# Altium schematic symbol library _components.SchLib: 46 symbols
Pins are listed as number, name and electrical type; pins without a type are passive.

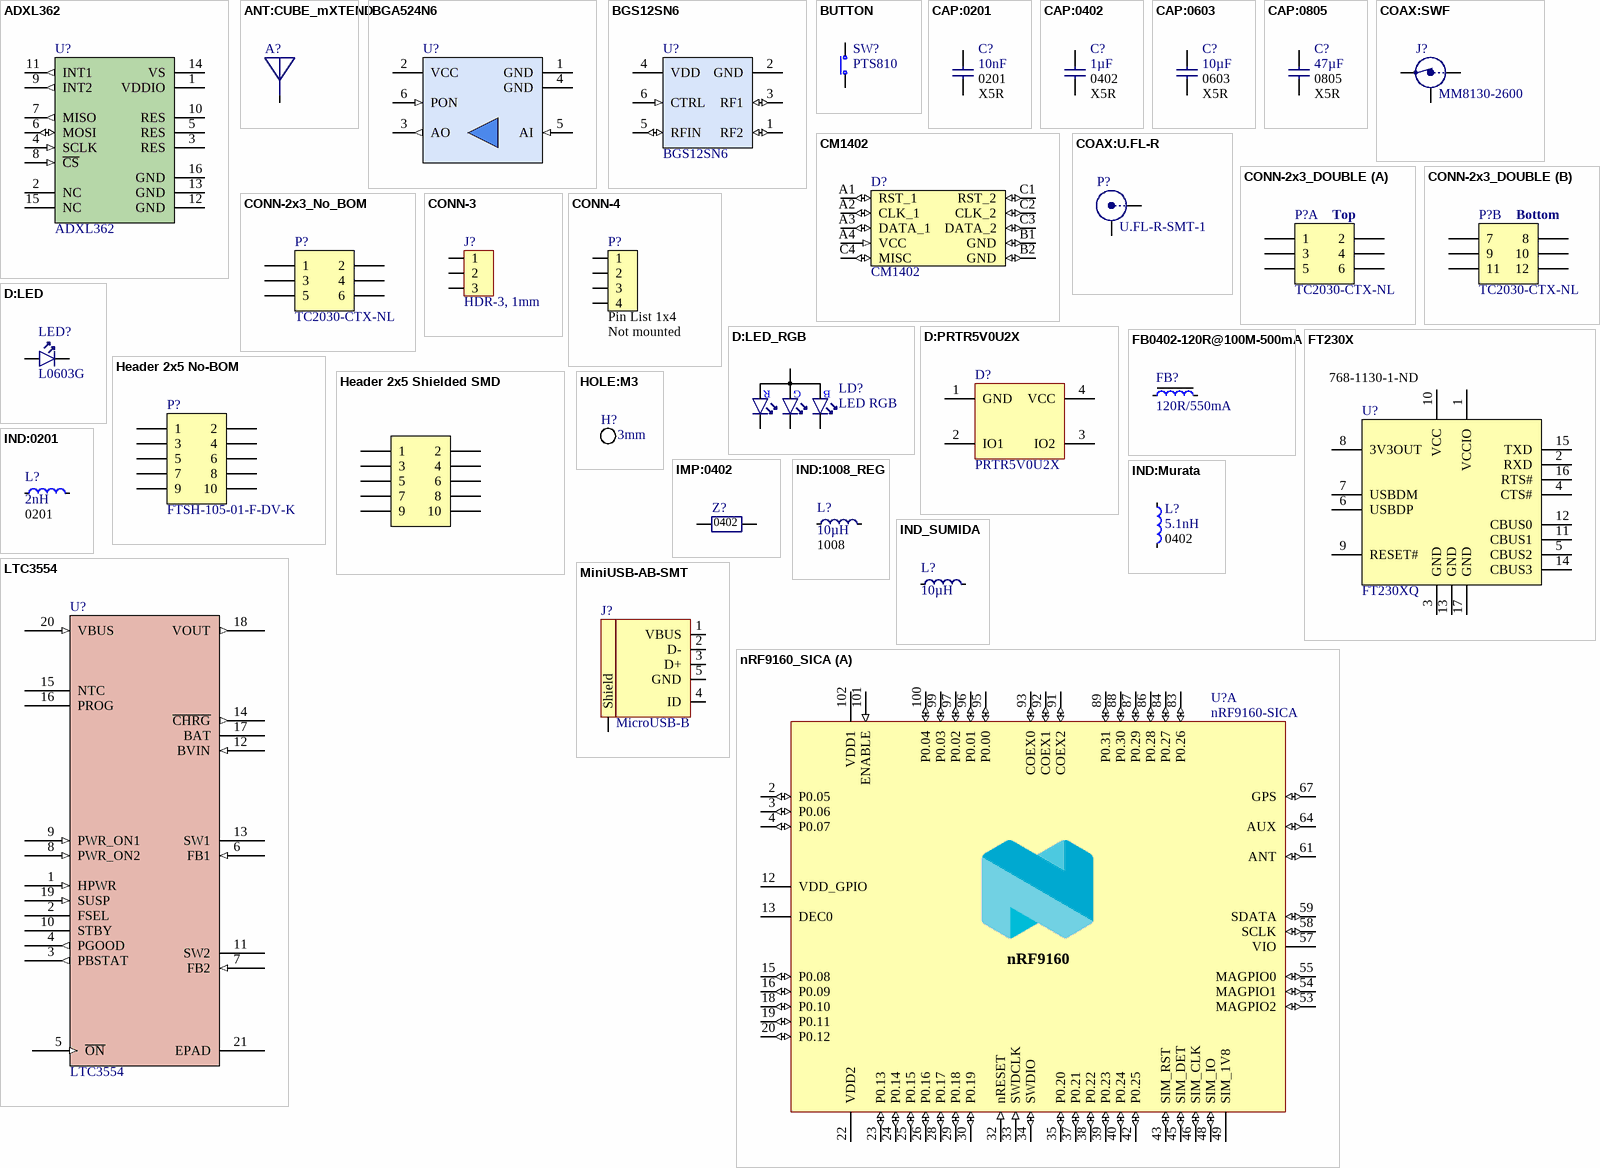
[diagram p0: symbols ADXL362 to nRF9160_SICA]

## ADXL362
designator U?
Micropower, 3-Axis, ±2 g/±4 g/±8 g Digital Output MEMS Accelerometer; Manufacturer: Analog Devices; Part number IPS: 00000001799; Artikkelnr Noca: N.A.; Part Number: ADXL362; Manufacturer Part Number: ADXL362; ComponentLink1URL: http://www.analog.com/media/en/technical-documentation/data-sheets/ADXL362.pdf; ComponentLink1Description: Datasheet; HelpURL: https://www.analog.com/media/en/technical-documentation/data-sheets/ADXL362.pdf; Footprint Doc: LGA-16; LatestRevisionDate: 2019-01-11; Pin Count: 16; Publisher: Nordic Semiconductor; Published: 2019-01-11; Value: ADXL362; Note: *; Supplier 1: Digi-Key; Supplier Part Number 1: ADXL362BCCZ-RL7CT-ND; Supplier 2: Mouser; Supplier Part Number 2: 584-ADXL362BCCZ-R7
footprint LGA50P322X300X114-16N
pins: 1 VDDIO (power), 2 NC, 3 RES, 4 SCLK (in), 5 RES, 6 MOSI (io), 7 MISO (out), 8 ~{CS} (in), 9 INT2 (out), 10 RES, 11 INT1 (out), 12 GND (power), 13 GND (power), 14 VS (power), 15 NC, 16 GND (power)

## ANT:CUBE_mXTEND
designator A?, comment FR01-S4-250  (value not drawn)
CUBE mXTEND Antenna Booster (GSM, UMTS, LTE); Manufacturer: Fractus Antennas S.L.; Manufacturer Part Number: FR01-S4-250; ComponentLink1Description: Datasheet; ComponentLink1URL: https://www.fractusantennas.com/wp-content/uploads/2018/01/UM_FR01-S4-250.pdf; Value: FR01-S4-250; Supplier 1: Digi-Key; Supplier Part Number 1: 2115-FR01-S4-250CT-ND; ComponentLink2Description: Digi-Key; ComponentLink2URL: https://www.digikey.no/product-detail/en/fractus-antennas-s-l/FR01-S4-250/2115-FR01-S4-250CT-ND/10108319
footprint FRACTUS_CUBE_mXTEND
pins: 1

## BGA524N6
designator U?  (value not drawn)
Silicon Germanium Low Noise Amplifier for Global Navigation Satellite Systems (GNSS), High Insertion Power Gain:19.6dB; Manufacturer: Infineon Technologies; ManufacturerPartNumber: BGA524N6; PackageReference: TSNP-6-2
footprint PG-TSNP-6-2 (TSNP-6-2 ,0.40mm Pitch, 6 Pin, 0.7mm W X 1.1mm L X 0.4mm H body)
pins: 1 GND (power) "Ground", 2 VCC (power) "DC Supply", 3 AO (out) "LNA Output", 4 GND (power) "Ground", 5 AI (in) "LNA Input", 6 PON (in) "Power on Control"

## BGS12SN6
designator U?
Wideband RF SPDT Switch; Manufacturer: Infineon Technologies; Manufacturer Part Number: BGS12SN6; Footprint Doc: TSNP-6-2; ComponentLink1Description: Datasheet; ComponentLink1URL: https://www.infineon.comhttps://www.infineon.com/dgdl/Infineon-BGS12SN6-DS-v01_02-en.pdf?fileId=db3a30433f1b26e8013f2db58bc03856; ComponentLink3Description: Digi-Key BGS12SN6; ComponentLink3URL: https://www.digikey.com/product-detail/en/infineon-technologies/BGS12SN6E6327XTSA1/BGS12SN6E6327XTSA1CT-ND/5764851; Value: BGS12SN6; Supplier 1: Digi-Key; Supplier Part Number 1: BGS12SN6E6327XTSA1CT-ND
footprint PG-TSNP-6-2 (TSNP-6-2 ,0.40mm Pitch, 6 Pin, 0.7mm W X 1.1mm L X 0.4mm H body)
pins: 1 RF2 (io) "RF Port 2", 2 GND (power) "Ground", 3 RF1 (io) "RF Port 1", 4 VDD (power) "Supply Voltage", 5 RFIN (io) "RF Port In", 6 CTRL (in) "Control Pin"

## BUTTON
designator SW?, comment PTS810
SWITCH TACTILE SPST-NO 0.05A 16V; Manufacturer Part Number: PTS810 SJM 250 SMTR LFS; Manufacturer: C&K; Note: NO; Value: PTS810; ComponentLink1Description: Datasheet; ComponentLink1URL: https://www.ckswitches.com/media/1476/pts810.pdf; ComponentLink2Description: Digi-Key; ComponentLink2URL: https://www.digikey.no/product-detail/en/c-k/PTS810-SJM-250-SMTR-LFS/CKN10502DKR-ND/4176674; HelpDoc: https://www.ckswitches.com/media/1476/pts810.pdf; Supplier 1: Digi-Key; Supplier Part Number 1: CKN10502CT-ND
footprint BTN_PTS810
pins: 1, 2

## CAP:0201
designator C?, comment 10nF  Footprint Doc: 0201  TempCoeff: X5R
Capacitor, X5R, ±10%, 10V; Artikkelnr Noca: N.A.; Manufacturer: *; Manufacturer Part Number: *; LatestRevisionDate: 2014-11-13; Pin Count: 2; Publisher: Nordic Semiconductor; Published: 2014-11-13; Value: 10nF; Note: 10V; HelpURL: *; Supplier 1: *; Supplier Part Number 1: *; Supplier 2: *; Supplier Part Number 2: *
footprint CAPC0603X03L_C
pins: 1, 2

## CAP:0402
designator C?, comment 1µF  Footprint Doc: 0402  TempCoeff: X5R
Capacitor, X5R, ±10%, 6.3V; Artikkelnr Noca: N.A.; Manufacturer: *; Manufacturer Part Number: *; LatestRevisionDate: 2014-11-13; Pin Count: 2; Publisher: Nordic Semiconductor; Published: 2014-11-13; Value: 1µF; Note: 6.3V; HelpURL: *; Supplier 1: *; Supplier Part Number 1: *; Supplier 2: *; Supplier Part Number 2: *
footprint CAPC1005X04L
pins: 1, 2

## CAP:0603
designator C?, comment 10µF  Footprint Doc: 0603  TempCoeff: X5R
Capacitor, X5R, ±10%, 6.3V; Artikkelnr Noca: N.A.; Manufacturer: *; Manufacturer Part Number: *; LatestRevisionDate: 2014-11-13; Pin Count: 2; Publisher: Nordic Semiconductor; Published: 2014-11-13; Value: 10µF; Note: 6.3V; HelpURL: *; Supplier 1: *; Supplier Part Number 1: *; Supplier 2: *; Supplier Part Number 2: *
footprint CAPC1608X06L
pins: 1, 2

## CAP:0805
designator C?, comment 47µF  Footprint Doc: 0805  TempCoeff: X5R
Capacitor, X5R, ±20%, 6.3V; Note: s; Artikkelnr Noca: N.A.; Manufacturer: *; Manufacturer Part Number: *; LatestRevisionDate: 2014-11-13; Pin Count: 2; Publisher: Nordic Semiconductor; Published: 2014-11-13; HelpURL: *; Supplier 1: *; Supplier Part Number 1: *; Supplier 2: *; Supplier Part Number 2: *; Value: 47µF
footprint CAPC2012X11L (Chip Capacitor, 2-Leads, Body 2.0x1.3mm, IPC High Density)
pins: 1, 2

## CM1402
designator D?
EMI Network Filter Arrays SIM CARD EMI FILTER WITH ESD PROTECTION; Manufacturer: ON Semiconductor; Manufacturer Part Number: CM1402-03CP; Artikkelnr Noca: N.A.; Part Number: CM1402; Footprint Doc: CM1402; LatestRevisionDate: 2017-02-06; Publisher: Nordic Semiconductor; Published: 2017-02-06; Value: CM1402; Note: *; ComponentLink1URL: *; ComponentLink1Description: Datasheet; ComponentLink2URL: *; ComponentLink2Description: Supplier link; Datasheet: http://www.onsemi.com/pub_link/Collateral/CM1402-D.PDF; Pin Count: 10; Supplier 1: Mouser; Supplier Part Number 1: 748-CM1402-03CP; Part number IPS: N.A.; Supplier 2: Digi-Key; Supplier Part Number 2: CM1402-03CPOSCT-ND
footprint CM1402
pins: A1 RST_1 (io), A2 CLK_1 (io), A3 DATA_1 (io), A4 VCC (in), B1 GND (io), B2 GND (io), C1 RST_2 (io), C2 CLK_2 (io), C3 DATA_2 (io), C4 MISC (io)

## COAX:SWF
designator J?, comment MM8130-2600
Coaxial Connector with Switch; Manufacturer: Murata; Part number IPS: 00000009955; Artikkelnr Noca: 55029011; Part Number: MM8130-2600; Manufacturer Part Number: MM8130-2600; LatestRevisionDate: 2014-04-24; Pin Count: 3; Publisher: Nordic Semiconductor; Published: 2014-04-24; Value: MM8130-2600; Note: *; Footprint Doc: COAXIAL-SWF; ComponentLink1URL: *; ComponentLink1Description: Datasheet; ComponentLink2URL: *; ComponentLink2Description: Supplier link; HelpURL: http://www.murata.com/products/catalog/pdf/o33e.pdf; Supplier 1: Digi-Key; Supplier Part Number 1: 490-4981-1-ND; Supplier 2: Mouser; Supplier Part Number 2: 81-MM8130-2600RA2
footprint COAXIAL-SWF
pins: 1 IN, 2 Shield, 3 OUT

## COAX:U.FL-R
designator P?, comment U.FL-R-SMT-1
CONN U.FL RCPT STR 50 OHM SMD; Manufacturer: Hirose Electric Co Ltd; Artikkelnr Noca: N.A.; Part Number: U.FL-R-SMT-1; Manufacturer Part Number: U.FL-R-SMT-1; ComponentLink1URL: http://www.farnell.com/datasheets/1947917.pdf?src-supplier=Distrelec; ComponentLink1Description: Datasheet; HelpURL: *; Footprint Doc: COAXIAL RF U.FL-R-SMT-1; LatestRevisionDate: 2018-05-07; Pin Count: 3; Publisher: Nordic Semiconductor; Published: 2018-05-07; Value: U.FL-R-SMT-1; Note: *; Supplier 1: Digi-Key; Supplier Part Number 1: H11891DKR-ND; Part number IPS: N.A.
footprint COAXIAL RF U.FL-R-SMT-1
pins: 1 X, 2 Y

## CONN-2x3_DOUBLE
designator P?, comment TC2030-CTX-NL  (no BOM)
CBL PLUG-OF-NAILS 6-PIN; Manufacturer: Tag-Connect LLC; Artikkelnr Noca: N.A.; Part Number: TC2030-CTX-NL; Manufacturer Part Number: TC2030-CTX-NL; Datasheet: http://www.tag-connect.com/Materials/TC2030-IDC-NL.pdf; Footprint: TC2030-IDC-NLFP; LatestRevisionDate: 2013-08-08; Pin Count: 6; Publisher: Nordic Semiconductor; Published: 2013-08-08; Value: TC2030-CTX-NL; Supplier: Tag-Connect; Supplier part number: TC2030-CTX-NL; 2nd source Supplier: *; 2nd source part number: *; ComponentLink1Description: Datasheet; ComponentLink1URL: http://www.tag-connect.com/Materials/TC2030-IDC-NL.pdf
footprint TC2030-IDC-NLFP_DOUBLE
part A pins: 1, 2, 3, 4, 5, 6
part B pins: 7, 8, 9, 10, 11, 12
part A text: Top
part B text: Bottom

## CONN-2x3_No_BOM
designator P?, comment TC2030-CTX-NL  (no BOM)
CBL PLUG-OF-NAILS 6-PIN; Manufacturer: Tag-Connect LLC; Artikkelnr Noca: N.A.; Part Number: TC2030-CTX-NL; Manufacturer Part Number: TC2030-CTX-NL; Datasheet: http://www.tag-connect.com/Materials/TC2030-IDC-NL.pdf; Footprint: TC2030-IDC-NLFP; LatestRevisionDate: 2013-08-08; Pin Count: 6; Publisher: Nordic Semiconductor; Published: 2013-08-08; Value: TC2030-CTX-NL; Supplier: Tag-Connect; Supplier part number: TC2030-CTX-NL; 2nd source Supplier: *; 2nd source part number: *
footprint TC2030-IDC-NLFP
pins: 1, 2, 3, 4, 5, 6

## CONN-3
designator J?, comment HDR-3, 1mm
1.0mm pitch connector side entry SMD; Part Number: SM03B-SRSS-TB; Manufacturer: JST; Manufacturer Part Number: SM03B-SRSS-TB(LF)(SN); Part number IPS: 00000001785; Note: JST, Header; Artikkelnr Noca: N.A.; Footprint Doc: SM03B-SRSS-TB; LatestRevisionDate: 2017-10-09; Pin Count: 3; Publisher: Nordic Semiconductor; Published: 2017-10-09; Supplier 1: Digi-Key; Supplier Part Number 1: 455-1803-1-ND; ComponentLink1Description: Datasheet; ComponentLink1URL: http://www.jst-mfg.com/product/pdf/eng/eSH.pdf; Value: HDR-3, 1mm
footprint SM03B-SRSS-TB
pins: 1, 2, 3 (power)

## CONN-4
designator P?, comment Pin List 1x4  Assembly: Not mounted  (no BOM)
Pin List 1x4, 2.54mm (100mil); Note: Pin List 1x4, N.C.; Footprint Doc: LIST_1x4; Pin Count: 4; Publisher: Nordic Semiconductor; Published: 2019-07-17; Value: Pin List 1x4
footprint LIST_1x4-NC
pins: 1, 2, 3, 4

## D:LED
designator LED?, comment L0603G
LED, Green, 0603, 570nm, Vf=1.7V, 2.24..5.6mcd, - 40 to +100°C; Part Number: LG L29K Smartled Green; Manufacturer: Osram; Manufacturer Part Number: LG L29K-G2J1-24-Z; Part number IPS: N.A.; Note: 2.24..5.6 mcd, Vfmin=1.7V; Artikkelnr Noca: 13019147; Footprint Doc: 0603; LatestRevisionDate: 2017-08-21; Pin Count: 2; Publisher: Nordic Semiconductor; Published: 2014-10-28; Value: L0603G; ComponentLink1URL: *; ComponentLink1Description: Datasheet; ComponentLink2URL: *; ComponentLink2Description: Supplier link; HelpURL: http://www.osram-os.com/Graphics/XPic2/00077107_0.pdf; Supplier 1: Digi-Key; Supplier Part Number 1: 475-2709-1-ND
footprint LED_0603_G
pins: 1 C, 2 A

## D:LED_RGB
designator LD?, comment LED RGB
RGB LED 1.60 mm x 1.60 mm SMD; Part Number: LTST-C19HE1WT; Manufacturer: Lite-On Inc; 2nd source part number: 859-LTST-C19HE1WT; Part number IPS: 00000007798; Artikkelnr Noca: N.A.; Manufacturer Part Number: LTST-C19HE1WT; LatestRevisionDate: 2016-09-23; Pin Count: 4; Publisher: Nordic Semiconductor; Published: 2016-09-23; Value: LED RGB; Note: *; 2nd source Supplier: Mouser; Footprint Doc: LED_RGB_0606; Artikkelnr Simpro: N.A.; Supplier 1: Digi-Key; ComponentLink1Description: Datasheet; ComponentLink1URL: http://optoelectronics.liteon.com/upload/download/DS22-2008-0044/S_110_LTST-C19HE1WT.pdf; Supplier Part Number 1: 160-2162-1-ND
footprint LED_RGB_0606
pins: 1 C_RED, 2 C_GREEN, 3 C_BLUE, 4 A
text: R; G; B

## D:PRTR5V0U2X
designator D?, comment PRTR5V0U2X
Ultra low capacitance double rail-to-rail ESD protection diode; Manufacturer: NXP; Part number IPS: 00000009951; Artikkelnr Noca: 10069015; Part Number: PRTR5V0U2X; Manufacturer Part Number: PRTR5V0U2X; LatestRevisionDate: 2017-11-09; Publisher: Nordic Semiconductor; Published: 2012-06-11; Value: PRTR5V0U2X; Note: *; Footprint Doc: SOT-143B; ComponentLink1URL: *; ComponentLink1Description: Datasheet; ComponentLink2URL: *; ComponentLink2Description: Supplier link; HelpURL: http://www.farnell.com/datasheets/109718.pdf; Pin Count: 4; Supplier 1: Digi-Key; Supplier Part Number 1: 568-4140-1-ND; Supplier 2: Farnell; Supplier Part Number 2: 152-4157
footprint SOT190P230X110-4L
pins: 1 GND, 2 IO1, 3 IO2, 4 VCC

## FB0402-120R@100M-500mA
designator FB?, comment 120R/550mA
Ferrite Bead, 120 Ohm @ 100MHz, 500mA, 250 mOhm Max; Part Number: FB0805-120R@100M-550mA; Manufacturer: Murata; Manufacturer Part Number: BLM15AG121SN1D; Note: Chip EMIFIL Inductor Type Chip Ferrite Bead; Artikkelnr Noca: 33029317; Artikkelnr Simpro: N.A.; ComponentLink1Description: Datasheet; ComponentLink2URL: https://www.murata.com/en-global/products/productdata/8796733767710/S0580E.pdf; ComponentLink2Description: Datasheet; Datasheet: http://search.murata.co.jp/Ceramy/image/img/PDF/ENG/L0110S0100BLM15A_SN.pdf; Footprint Doc: 0402; LatestRevisionDate: 2019-06-06; Pin Count: 2; Publisher: Nordic Semiconductor; Published: 2011-11-14; Value: 120R/550mA; Part number IPS: N.A.; Supplier 1: Digi-Key; Supplier Part Number 1: 490-1005-1-ND
footprint INDC1005X04L (0402 (imperial))
pins: 1, 2

## FT230X
designator U?, comment FT230XQ  Supplier Part Number 1: 768-1130-1-ND
USB Bridge, USB to UART USB 2.0 UART Interface 16-QFN (4x4); Manufacturer: FTDI; Artikkelnr Noca: N.A.; Part Number: FT230XQ; Manufacturer Part Number: FT230XQ; Footprint Doc: QFN-16; LatestRevisionDate: 2019-07-04; Pin Count: 16; Publisher: Nordic Semiconductor; Published: 2019-07-04; Value: FT230XQ; Note: *; ComponentLink1Description: Datasheet; ComponentLink1URL: https://www.ftdichip.com/Support/Documents/DataSheets/ICs/DS_FT230X.pdf; Supplier 1: Digi-Key
footprint QFN65P400X400X80_HS-17N (QFN, 16-Leads, Body 4,00x4,00mm, Pitch 0,65mm, Thermal Pad 2,08x2,08mm, IPC Medium Density)
pins: 1 VCCIO (power), 2 RXD, 3 GND, 4 CTS#, 5 CBUS2, 6 USBDP, 7 USBDM, 8 3V3OUT, 9 RESET#, 10 VCC, 11 CBUS1, 12 CBUS0 (power), 13 GND (power), 14 CBUS3 (power), 15 TXD, 16 RTS# (power), 17 GND (power)

## Header 2x5 No-BOM
designator P?, comment FTSH-105-01-F-DV-K  (no BOM)
Connector Header Surface Mount 10 position 0.050" (1.27mm); Manufacturer: Samtec Inc.; Manufacturer Part Number: FTSH-105-01-F-DV-K; Value: FTSH-105-01-F-DV-K; Footprint: *; Package: *; Publisher: Nordic Semiconductor; 2nd Manufacturer Part Number: *; 2nd Manufacturer: *; LatestRevisionDate: 2018-10-15; Supplier 1: Digi-Key; Supplier Part Number 1: SAM8796-ND; Supplier 2: Newark; Supplier Part Number 2: 45P5160; Supplier 3: Farnell; Supplier Part Number 3: 2856430; Supplier 4: Mouser; Supplier Part Number 4: 200-FTSH10501FDVK
footprint HDR_2x5-SMD-1.27mm
pins: 1, 2, 3, 4, 5, 6, 7, 8, 9, 10

## Header 2x5 Shielded SMD
designator P?, comment FTSH-105-01-F-DV-K  (no BOM)
Connector Header Surface Mount 10 position 0.050" (1.27mm); Manufacturer: Samtec Inc.; Manufacturer Part Number: FTSH-105-01-F-DV-K; Value: FTSH-105-01-F-DV-K; Footprint: *; Package: *; Publisher: Nordic Semiconductor; 2nd Manufacturer Part Number: *; 2nd Manufacturer: *; LatestRevisionDate: 2018-10-15; Supplier 1: Digi-Key; Supplier Part Number 1: SAM8796-ND; Supplier 2: Newark; Supplier Part Number 2: 45P5160; Supplier 3: Farnell; Supplier Part Number 3: 2856430; Supplier 4: Mouser; Supplier Part Number 4: 200-FTSH10501FDVK
footprint HDR_2x5-SMD-1.27mm-K
pins: 1, 2, 3, 4, 5, 6, 7, 8, 9, 10

## HOLE:M3
designator H?, comment 3mm  (no BOM)
Value: 3mm
footprint HOLE_NP_3MM (Regular 3mm non-plated hole)

## IMP:0402
designator Z?, comment 0402  (value not drawn)
Manufacturer: *; Manufacturer Part Number: *; Footprint: 0402; Package: SMD; Publisher: Nordic Semiconductor; 2nd Manufacturer Part Number: *; 2nd Manufacturer: *; LatestRevisionDate: 2019-06-11; Value: *
footprint 0402_blank (Blank footprint)
pins: 1, 2

## IND:0201
designator L?, comment 2nH  Footprint Doc: 0201
Inductor, 350mA, ±3%; Manufacturer: Murata; Manufacturer Part Number: *; HelpURL: *; LatestRevisionDate: 2017-07-19; Pin Count: 2; Publisher: Nordic Semiconductor; Published: 2013-04-10; Value: 2nH; Note: *; Supplier 1: *; Supplier Part Number 1: *; Supplier 2: *; Supplier Part Number 2: *
footprint INDC0603X03L_C
pins: 1, 2

## IND:1008_REG
designator L?, comment 10µH  Footprint Doc: 1008
Switching regulator chip inductor, 2-Leads, Body 2.5x2.0x1.1 mm; Manufacturer: Wurth Electronics Inc.; Manufacturer Part Number: 74479787247; Datasheet: Not available; LatestRevisionDate: 2019-06-13; Pin Count: 2; Publisher: Nordic Semiconductor; Published: 2019-07-02; Value: 10µH; ComponentLink2Description: Supplier link; Supplier 1: Digi-Key; Supplier 2: Mouser; Supplier Part Number 1: 732-14079-1-ND; Supplier Part Number 2: 710-74479787247; ComponentLink1Description: Digi-Key
footprint IND1008 (Chip Inductor, 2-Leads, Body 2.5x2.0x1.1 mm)
pins: 1, 2

## IND:Murata
designator L?, comment 5.1nH  Footprint Doc: 0402
Inductor, 600mA, ±0.1nH, 120mΩ, Q=25; Part Number: L0402-5n1-Wirewound-Murata; Manufacturer: Murata; Manufacturer Part Number: LQW15AN5N1B00; Note: -55°C ~ 125°C; Artikkelnr Noca: N.A.; ComponentLink1URL: https://search.murata.co.jp/Ceramy/image/img/P02/JELF243A-0050.pdf; ComponentLink1Description: Datasheet; ComponentLink2URL: *; ComponentLink2Description: Supplier link; HelpURL: https://psearch.en.murata.com/inductor/product/LQW15AN5N1B00%23.html; LatestRevisionDate: 2019-04-16; Pin Count: 2; Publisher: Nordic Semiconductor; Published: 2019-04-16; Value: 5.1nH; Part number IPS: N.A.; Supplier 1: Digi-Key; Supplier Part Number 1: 490-6831-1-ND
footprint INDC1005X04L_WW
pins: 1, 2

## IND_SUMIDA
designator L?, comment 10µH
FIXED IND; Manufacturer: Sumida America Components Inc.; Datasheet: http://products.sumida.com/products/pdf/CDRH2D11BHP.pdf; LatestRevisionDate: 2019-06-13; Pin Count: 2; Publisher: Nordic Semiconductor; Published: 2019-06-13; Value: 10µH; ComponentLink2Description: Supplier link; ComponentLink1Description: Digi-Key; Supplier 1: Digi-Key; Supplier Part Number 1: 308-1590-1-ND; Supplier 2: Digi-Key; Supplier Part Number 2: 308-1585-1-ND
footprint IND_SUMIDA
pins: 1, 2

## LTC3554
designator U?
IC USB POWER MANAGER 20UTQFN; Manufacturer: Linear Technology; Manufacturer Part Number: LTC3554EUD-3#PBF; Value: LTC3554; ComponentLink1Description: Datasheet; ComponentLink1URL: https://www.analog.com/media/en/technical-documentation/data-sheets/355412ff.pdf; ComponentLink2Description: Digi-Key; ComponentLink2URL: https://www.digikey.com/product-detail/en/linear-technology-analog-devices/LTC3554EUD-PBF/LTC3554EUD-PBF-ND/2355199; Supplier 1: Digi-Key; Supplier 2: Mouser; Supplier Part Number 1: LTC3554EUD#PBF-ND; Supplier Part Number 2: 584-LTC3554EUD#PBF; Datasheet: https://www.analog.com/media/en/technical-documentation/data-sheets/355412ff.pdf; Footprint Doc: QFN-20; Publisher: Nordic Semiconductor; Published: 2019-07-17
footprint QFN40P300X300X80_HS-21N (QFN, 20-Leads, Body 3,00x3,00mm, Pitch 0,40mm, Thermal Pad 1,65x1,65mm, IPC Medium Density)
pins: 1 HPWR (in), 2 FSEL, 3 PBSTAT (out), 4 PGOOD (out), 5 ~{ON} (in), 6 FB1 (in), 7 FB2 (in), 8 PWR_ON2 (in), 9 PWR_ON1 (in), 10 STBY, 11 SW2, 12 BVIN (in), 13 SW1, 14 ~{CHRG} (out), 15 NTC, 16 PROG, 17 BAT, 18 VOUT (out), 19 SUSP (in), 20 VBUS (in), 21 EPAD

## MiniUSB-AB-SMT
designator J?, comment MicroUSB-B
MicroUSB-B-SMT; Part Number: USB-Micro-B-RA-SMD-PiP; Manufacturer: Amphenol ICC (FCI); Manufacturer Part Number: 10118194-0001LF; Part number IPS: 00000007790; Artikkelnr Noca: 55029020; Artikkelnr Simpro: N.A.; LatestRevisionDate: 2016-04-21; Pin Count: 5; Publisher: Nordic Semiconductor; Published: 2014-10-07; Value: MicroUSB-B; Note: *; Supplier 1: Mouser; Supplier 2: Digi-Key; Supplier Part Number 1: 649-10118193-0001LF; Supplier Part Number 2: 609-4616-1-ND; Footprint Doc: USB-Micro-B-RA-SMD-PiP
footprint USB-Micro-B-RA-SMD-PiP
pins: 1 VBUS (power), 2 D-, 3 D+, 4 ID, 5 GND (power), 6 Shield (power)

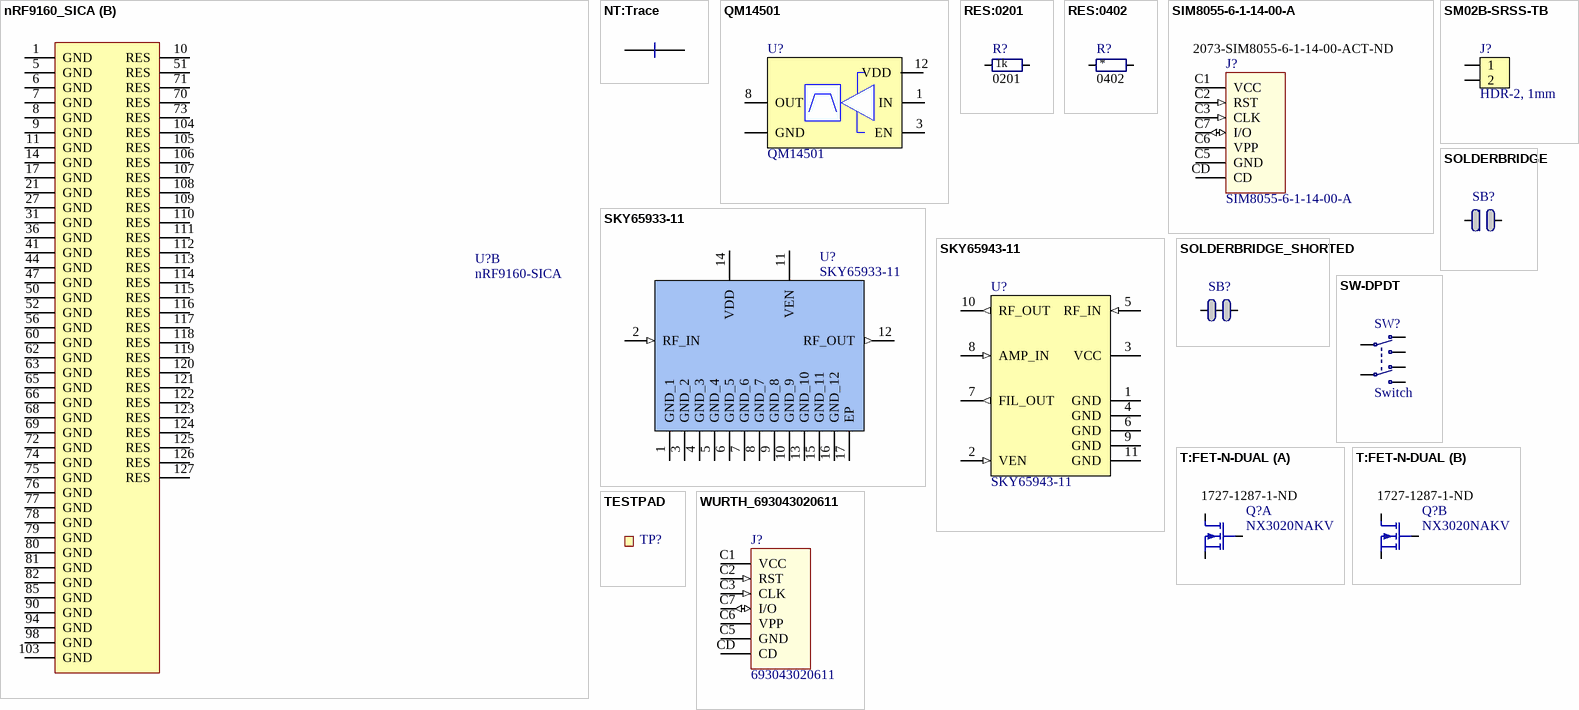
[diagram p1: symbols nRF9160_SICA to WURTH_693043020611]

## nRF9160_SICA
designator U?, comment nRF9160-SICA
Low power System-in-Package with integrated LTE-M/NB-IoT modem and GPS; Manufacturer: Nordic Semiconductor; Artikkelnr Noca: N.A.; Part Number: nRF9160-SICA; Manufacturer Part Number: nRF9160-SICA; Footprint Doc: LGA-161; Pin Count: 161; Value: nRF9160-SICA; HelpURL: *; LatestRevisionDate: 2019-02-14; Publisher: Nordic Semiconductor; Published: 2019-02-14; Note: *; Part number IPS: N.A.; Supplier 1: Mouser; Supplier 2: Digi-Key; Supplier Part Number 1: 949-NRF9160-SICA-R; Supplier Part Number 2: 1490-1076-1-ND
footprint LGA50P1600X1050X104-161N
part A pins: 2 P0.05 (io), 3 P0.06 (io), 4 P0.07 (io), 12 VDD_GPIO (power), 13 DEC0 (power), 15 P0.08 (io), 16 P0.09 (io), 18 P0.10 (io), 19 P0.11 (io), 20 P0.12 (io), 22 VDD2 (power), 23 P0.13 (io), 24 P0.14 (io), 25 P0.15 (io), 26 P0.16 (io), 28 P0.17 (io), 29 P0.18 (io), 30 P0.19 (io), 32 nRESET (in), 33 SWDCLK (in), 34 SWDIO (io), 35 P0.20 (io), 37 P0.21 (io), 38 P0.22 (io), 39 P0.23 (io), 40 P0.24 (io), 42 P0.25 (io), 43 SIM_RST (io), 45 SIM_DET (io), 46 SIM_CLK (io), 48 SIM_IO (io), 49 SIM_1V8 (power), 53 MAGPIO2 (io), 54 MAGPIO1 (io), 55 MAGPIO0 (io), 57 VIO (power), 58 SCLK (io), 59 SDATA (io), 61 ANT (io), 64 AUX (io), 67 GPS (io), 83 P0.26 (io), 84 P0.27 (io), 86 P0.28 (io), 87 P0.29 (io), 88 P0.30 (io), 89 P0.31 (io), 91 COEX2 (io), 92 COEX1 (io), 93 COEX0 (io), 95 P0.00 (io), 96 P0.01 (io), 97 P0.02 (io), 99 P0.03 (io), 100 P0.04 (io), 101 ENABLE (in), 102 VDD1 (power)
part B pins: 1 GND (power), 5 GND (power), 6 GND, 7 GND, 8 GND, 9 GND (power), 10 RES, 11 GND, 14 GND (power), 17 GND (power), 21 GND (power), 27 GND (power), 31 GND (power), 36 GND (power), 41 GND (power), 44 GND (power), 47 GND (power), 50 GND (power), 51 RES, 52 GND (power), 56 GND (power), 60 GND (power), 62 GND (power), 63 GND (power), 65 GND (power), 66 GND (power), 68 GND, 69 GND, 70 RES, 71 RES, 72 GND (power), 73 RES, 74 GND (power), 75 GND (power), 76 GND (power), 77 GND (power), 78 GND (power), 79 GND (power), 80 GND (power), 81 GND (power), 82 GND (power), 85 GND (power), 90 GND (power), 94 GND (power), 98 GND (power), 103 GND (power), 104 RES, 105 RES, 106 RES, 107 RES, 108 RES, 109 RES, 110 RES, 111 RES, 112 RES, 113 RES, 114 RES, 115 RES, 116 RES, 117 RES, 118 RES, 119 RES, 120 RES, 121 RES, 122 RES, 123 RES, 124 RES, 125 RES, 126 RES, 127 RES
part A text: nRF9160

## NT:Trace
designator NT?, comment Star point  (value not drawn)  (net tie, no BOM)
footprint Net_tie_trace
pins: 1, 2

## QM14501
designator U?
GPS, GLONASS, and BeiDou Low Noise Amplifier With Integrated Output SAW Filter, 1.55 to 1.61 GHz, 13.5 dB; Manufacturer: Qorvo; Part number IPS: 80000001649; Artikkelnr Noca: N.A.; Part Number: QM14501; Manufacturer Part Number: QM14501; Footprint Doc: QM14501; Pin Count: 12; Value: QM14501; ComponentLink1URL: \\hizz\pro\app9717\Datasheet\integated circuits\qorvo\QM14501 Datasheet.pdf; ComponentLink1Description: Datasheet; HelpURL: https://www.rfmw.com/Products/Detail/QM14501-Qorvo/597159/; LatestRevisionDate: 2018-10-22; Publisher: Nordic Semiconductor; Published: 2018-01-16; Note: *; Supplier 1: *; Supplier Part Number 1: *; Supplier 2: *; Supplier Part Number 2: *
footprint QM14501
pins: 1 IN, 2 GND, 3 EN, 4 GND hidden to GND, 5 GND hidden to GND, 6 GND hidden to GND, 7 GND hidden to GND, 8 OUT, 9 GND hidden to GND, 10 GND hidden to GND, 11 GND hidden to GND, 12 VDD

## RES:0201
designator R?, comment 1k  Footprint Doc: 0201
Manufacturer: *; Manufacturer Part Number: *; Package: 0201; Publisher: Nordic Semiconductor; LatestRevisionDate: 2019-06-11; Value: 1k
footprint RESC0603X03L_C
pins: 1, 2

## RES:0402
designator R?  Footprint Doc: 0402
Manufacturer: *; Manufacturer Part Number: *; Package: 0402; Publisher: Nordic Semiconductor; LatestRevisionDate: 2019-06-11; Value: *
footprint RESC1005X04L
pins: 1, 2

## SIM8055-6-1-14-00-A
designator J?  Supplier Part Number 1: 2073-SIM8055-6-1-14-00-ACT-ND
Nano SIM Card Connector, Push-Pull Type, 6 Pin, SMT, Profile 1.35mm; Manufacturer: GCT; Note: Sim Card Reader; Manufacturer Part Number: SIM8055-6-1-14-00-A; ComponentLink1Description: Information Page; ComponentLink1URL: https://gct.co/connector/digi-key/sim8055; ComponentLink2Description: Digi-Key; ComponentLink2URL: https://www.digikey.com/product-detail/en/gct/SIM8055-6-1-14-00-A/2073-SIM8055-6-1-14-00-ADKR-ND/9859771; Value: SIM8055-6-1-14-00-A; Publisher: Nordic Semiconductor; Published: 2019-07-17; Supplier 1: Digi-Key
footprint GCT_SIM8055-6-1-14-00-A_revA1 (Nano SIM Card Connector, Push-Pull Type, 6 Pin, SMT, Profile 1.35mm)
pins: C1 VCC (power), C2 RST (in), C3 CLK (in), C5 GND (power), C6 VPP (power), C7 I/O (io), CD

## SKY65933-11
designator U?
Integrated Circuit; Manufacturer_Name: Skyworks; Datasheet Link: http://www.skyworksinc.com/uploads/documents/SKY65933_11_204405D.pdf; Height: 0.8mm; Manufacturer_Part_Number: SKY65933-11; Mouser Part Number: 873-SKY65933-11; Mouser Price/Stock: https://www.mouser.com/Search/Refine.aspx?Keyword=873-SKY65933-11; Value: SKY65933-11; Supplier 1: Digi-Key; Supplier 2: Mouser; Supplier Part Number 1: 863-2031-1-ND; Supplier Part Number 2: 873-SKY65933-11; ComponentLink1Description: Datasheet; ComponentLink1URL: http://www.skyworksinc.com/uploads/documents/SKY65933_11_204405D.pdf
footprint SKY6593311
pins: 1 GND_1, 2 RF_IN (in), 3 GND_2, 4 GND_3, 5 GND_4, 6 GND_5, 7 GND_6, 8 GND_7, 9 GND_8, 10 GND_9, 11 VEN, 12 RF_OUT (out), 13 GND_10, 14 VDD (power), 15 GND_11, 16 GND_12, 17 EP

## SKY65943-11
designator U?
GNSS Low-Noise Amplifier Front-End Module with Integrated Pre-Filter and Post-Filter; Manufacturer: Skyworks; Artikkelnr Noca: N.A.; Part Number: SKY65943-11; Manufacturer Part Number: SKY65943-11; Footprint Doc: MCM-10; Pin Count: 10; Value: SKY65943-11; ComponentLink1URL: http://www.skyworksinc.com/uploads/documents/SKY65943_11_204404F.pdf; ComponentLink1Description: Datasheet; ComponentLink2URL: https://www.digikey.com/product-detail/en/skyworks-solutions-inc/SKY65943-11/863-2032-1-ND; ComponentLink2Description: Supplier link; HelpURL: http://www.skyworksinc.com/Product/3579/SKY65943-11; LatestRevisionDate: 2019-04-16; Publisher: Nordic Semiconductor; Published: 2019-04-16; Note: *; Part number IPS: N.A.; Supplier 1: Digi-Key; Supplier 2: Mouser; Supplier Part Number 1: 863-2032-1-ND; Supplier Part Number 2: 873-SKY65943-11
footprint SKY6594311
pins: 1 GND (power), 2 VEN (in), 3 VCC (power), 4 GND (power), 5 RF_IN (in), 6 GND (power), 7 FIL_OUT (out), 8 AMP_IN (in), 9 GND (power), 10 RF_OUT (out), 11 GND (power)

## SM02B-SRSS-TB
designator J?, comment HDR-2, 1mm
1.0mm pitch connector side entry SMD; Part Number: SM02B-SRSS-TB; Manufacturer: JST; Manufacturer Part Number: SM02B-SRSS-TB(LF)(SN); Part number IPS: 00000007791; Note: JST, Header; Artikkelnr Noca: 55010030; Artikkelnr Simpro: N.A.; Datasheet: http://www.jst-mfg.com/product/pdf/eng/eSH.pdf; Footprint Doc: SM02B-SRSS-TB; LatestRevisionDate: 2016-06-20; Pin Count: 2; Publisher: Nordic Semiconductor; Published: 2016-06-20; Value: HDR-2, 1mm; Supplier: Digi-Key; Supplier part number: 455-1802-1-ND; 2nd source Supplier: *; 2nd source part number: *
footprint SM02B-SRSS-TB
pins: 1, 2

## SOLDERBRIDGE
designator SB?, comment Solderbridge  (value not drawn)  (no BOM)
Note: Not in BOM; ComponentLink1URL: *; ComponentLink1Description: Datasheet; ComponentLink2URL: *; ComponentLink2Description: Supplier link; Footprint Doc: Solderbridge; Pin Count: 2; Publisher: Nordic Semiconductor; Published: 2019-07-17; Value: Solderbridge
footprint Solderbridge
pins: 1 0, 2 1

## SOLDERBRIDGE_SHORTED
designator SB?, comment Solderbridge  (value not drawn)  (net tie, no BOM)
Shorted Solderbridge; Note: Not in BOM; Footprint Doc: Solderbridge Shorted; Pin Count: 2; Publisher: Nordic Semiconductor; Published: 2012-08-07; Value: Solderbridge
footprint Solderbridge_Shorted
pins: 1 0, 2 1

## SW-DPDT
designator SW?, comment Switch
SMD slide Switch (ON-ON); Part Number: Switch-Slide-RA-J-Lead-DPDT-8.5x3.5mm_Copal; Manufacturer: Copal Electronics Inc; Manufacturer Part Number: CL-SB-22A-11T; Part number IPS: 00000007811; Artikkelnr Noca: N.A.; Footprint Doc: Switch-Slide-RA-J-Lead-DPDT-8.5x3.5mm; LatestRevisionDate: 2017-02-01; Pin Count: 6; Publisher: Nordic Semiconductor; Published: 2017-02-01; Value: Switch; Note: *; HelpURL: http://www.nidec-copal-electronics.com/e/catalog/switch/cl-sb.pdf; Supplier 1: Digi-Key; Supplier Part Number 1: 563-1340-1-ND; Supplier 2: Avnet; Supplier Part Number 2: CL-SB-22A-11T
footprint Switch-Slide-RA-J-Lead-DPDT-8.5x3.5mm
pins: 1 N.O-1, 2 COM-1, 3 N.C-1, 4 N.O-2, 5 COM-2, 6 N.C-2

## T:FET-N-DUAL
designator Q?, comment NX3020NAKV  Supplier Part Number 2: 1727-1287-1-ND
MOSFET 2N-CH 30V 0.2A SOT666; Manufacturer: Nexperia; Manufacturer Part Number: NX3020NAKV,115; Artikkelnr Noca: N.A.; Part Number: NX3020NAKV; ComponentLink1URL: https://assets.nexperia.com/documents/data-sheet/NX3020NAKV.pdf; ComponentLink1Description: Datasheet; ComponentLink2URL: *; ComponentLink2Description: Supplier link; HelpURL: *; Footprint Doc: SOT666; LatestRevisionDate: 2018-12-13; Pin Count: 6; Publisher: Nordic Semiconductor; Published: 2018-12-13; Value: NX3020NAKV; Note: *; Supplier 1: Mouser; Supplier Part Number 1: 771-NX3020NAKV115; Part number IPS: N.A.; Supplier 2: Digi-Key
footprint NX3020NAKV
part A pins: 1 S1, 2 G1, 6 D1
part B pins: 3 D2, 4 S2, 5 G2

## TESTPAD
designator TP?, comment Ø1.0mm,SMD  (value not drawn)  (no BOM)
1.0mm circular SMD testpad; Manufacturer: Nordic Semiconductor; ComponentLink1URL: *; ComponentLink1Description: Datasheet; ComponentLink2URL: *; ComponentLink2Description: Supplier link; Footprint Doc: TP_SMD_Ø1.0mm; LatestRevisionDate: 2013-06-11; Pin Count: 1; Publisher: Nordic Semiconductor; Published: 2013-06-11; Value: Ø1.0mm,SMD
footprint TP_SMD_Ø1.0mm
pins: 1

## WURTH_693043020611
designator J?, comment 693043020611
Nano SIM Card Connector, 6 Pin, SMT, 1.2mm; Manufacturer: Würth Electronics; Note: Sim Card Reader; Manufacturer Part Number: 693043020611; Value: 693043020611; Publisher: Nordic Semiconductor; Published: 2019-07-24; Supplier 1: Digi-Key; Supplier Part Number 1: 732-5954-1-ND
footprint Wurth_693043020611_0 (Nano SIM connector)
pins: C1 VCC (power), C2 RST (in), C3 CLK (in), C5 GND (power), C6 VPP (power), C7 I/O (io), CD